# Altium schematic symbol library Audio Amplifiers.SchLib: 4 symbols
Pins are listed as number, name and electrical type; pins without a type are passive.

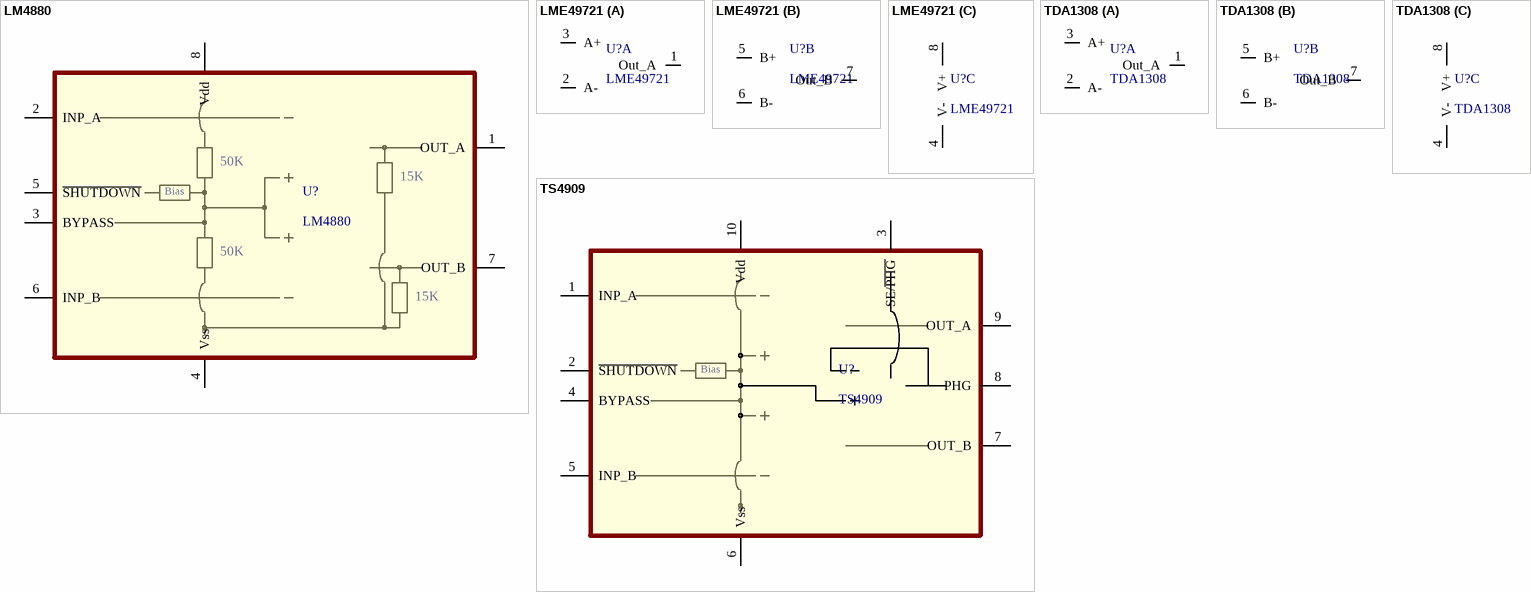
[diagram p0: symbols LM4880 to TS4909]

## LM4880
designator U?
LM4880 Stereo headphones driver/amplifier with shutdown
footprint LC-SOIC-8_150mil
pins: 1 OUT_A, 2 INP_A, 3 BYPASS, 4 Vss, 5 ~{SHUTDOWN}, 6 INP_B, 7 OUT_B, 8 Vdd
text: 50K; 15K; Bias

## LME49721
designator U?
LME49721 Dual Audio Operational Amplifier
footprint LC-SOIC-8_150mil
simulation model LME49721 ($)
part A pins: 1 Out_A, 2 A-, 3 A+
part B pins: 5 B+, 6 B-, 7 Out_B
part C pins: 4 V-, 8 V+

## TDA1308
designator U?
TDA1308 Stereo 16 Ohm headphones driver/amplifier
footprint LC-SOIC-8_150mil
part A pins: 1 Out_A, 2 A-, 3 A+
part B pins: 5 B+, 6 B-, 7 Out_B
part C pins: 4 V-, 8 V+

## TS4909
designator U?
Capacitorless stereo headphones amp with shutdown
footprint LC-DFN-10_EP_3x3mm
pins: 1 INP_A, 2 ~{SHUTDOWN}, 3 SE/~{PHG}, 4 BYPASS, 5 INP_B, 6 Vss, 7 OUT_B, 8 PHG, 9 OUT_A, 10 Vdd
text: Bias